# Altium schematic symbol library MMA8452Q.SchLib: 1 symbol
Pins are listed as number, name and electrical type; pins without a type are passive.

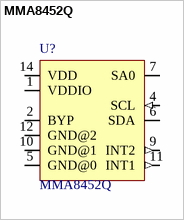
[diagram p0: symbol MMA8452Q]

## MMA8452Q
designator U?
Accelerometer X, Y, Z Axis , 2g, 4g, 8g 0.78Hz ~ 400Hz 16-QFN _3x3_; MP: MMA8452QR1; MF: NXP Semiconductors; Price: 1.147; Package: 16-VFQFN; Availability: Unavailable; SnapEDA_Link: https://www.snapeda.com/parts/MMA8452Q/NXP%20Semiconductors/view-part/4219708/?ref=snap; Value: *; Digikey link: https://www.digikey.com/product-detail/en/nxp-usa-inc/MMA8452QR1/MMA8452QR1TR-ND/2508917; Datasheet link: https://www.nxp.com/docs/en/data-sheet/MMA8451Q.pdf; Supplier 1: Digi-Key; Supplier Part Number 1: MMA8452QR1CT-ND
footprint *QFN-16_0.5MM
pins: 1 VDDIO (power), 2 BYP, 4 SCL (in), 5 GND@0, 6 SDA (io), 7 SA0, 9 INT2 (out), 10 GND@1, 11 INT1 (out), 12 GND@2, 14 VDD (power)